# Altium footprint library Servo_Control_Lib.PcbLib: 27 footprints (part 2 of 2)
Each footprint in its own frame and in the unit in brackets; x right, y up, seen from the top. Pads: shape width x height; smd on the part's side, far side on the other; paste and mask are expansions set on the pad; w line width, h text height; cw(c..) or ccw(c..) is an arc to the next point about the centre after c.
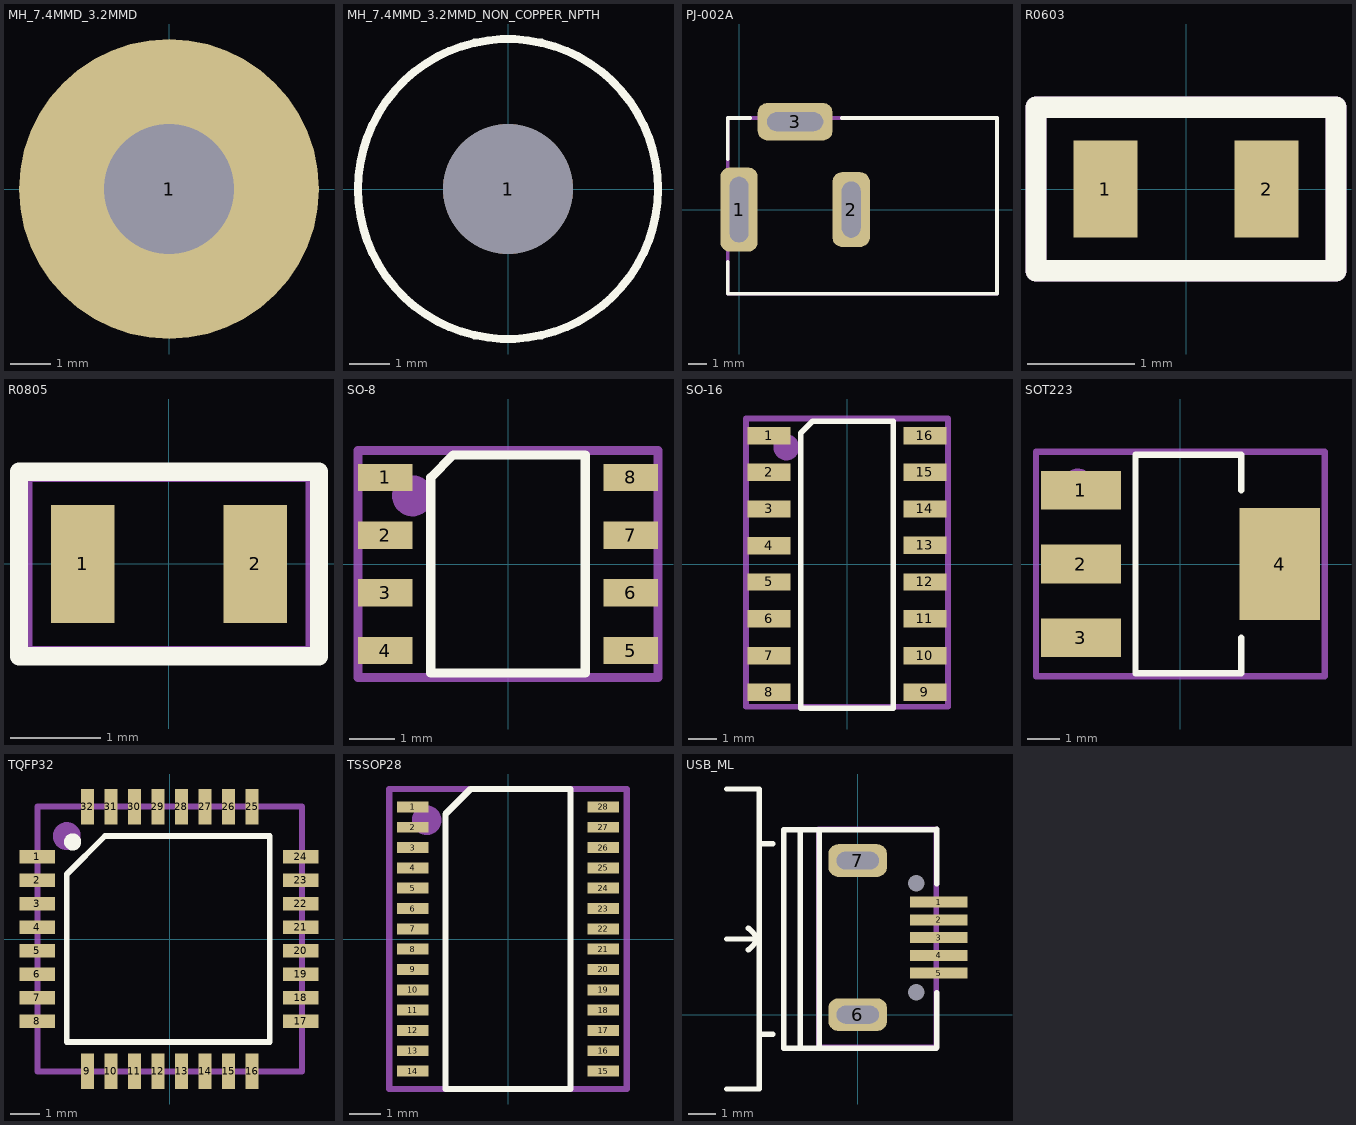
[diagram p1: the footprints below, top view; thin cyan lines are the x and y axes]

## MH_7.4MMD_3.2MMD [mm]
pads (1):
  round 7.4 hole 3.2: 1(0,0)

## MH_7.4MMD_3.2MMD_NON_COPPER_NPTH [mm]
pads (1):
  round 3.2 hole 3.2 unplated: 1(0,0)
Top Overlay:
  circle w0.2: c0,0 r3.7

## PJ-002A [mm]
pads (3):
  rrect50% 2x4.5 hole 1 slot 3.5 at 90 deg: 1(0,0)
  rrect50% 2x4 hole 1 slot 3 at 90 deg: 2(6,0)
  rrect50% 4x2 hole 1 slot 3 at 0 deg: 3(3,4.7)
Top Overlay:
  lines w0.2: -0.6,-2.8 -0.6,-4.5 13.8,-4.5 13.8,4.9 5.5,4.9 ; -0.6,2.7 -0.6,4.9 0.6,4.9
Mechanical 29:
  lines w0.2: -0.6,-4.5 -0.6,4.9 13.8,4.9 13.8,-4.5 -0.6,-4.5
  text ".Designator" at 4.7,-0.6 h1.52
3D body "pj-002a.stp": height 11.01, standoff -3.49, extent -0.6,-4.5 13.8,4.9

## R0603 [mm]
pads (2):
  rect 0.6x0.9 smd: 1(-0.75,0) 2(0.75,0)
Top Overlay:
  lines w0.2: -1.397,-0.762 1.397,-0.762 1.397,0.762 -1.397,0.762 -1.397,-0.762
Mechanical 29:
  lines w0.2: -1.397,-0.762 -1.397,0.762 1.397,0.762 1.397,-0.762 -1.397,-0.762
  text ".Designator" at -0.762,-0.254 h0.6
3D body "R0603.step": height 0.85, standoff 0.01, extent -0.8,-0.4 0.8,0.4

## R0805 [mm]
pads (2):
  rect 0.7x1.3 smd: 1(-0.95,0) 2(0.95,0)
Top Overlay:
  lines w0.2: -1.651,-1.016 -1.651,1.016 1.651,1.016 1.651,-1.016 -1.651,-1.016
Mechanical 29:
  lines w0.2: -1.6,-1 1.6,-1 1.6,1 -1.6,1 -1.6,-1
  text ".Designator" at -1.2,-0.2 h0.8
3D body "RESC2012X70N EIA 0805.step": height 0.71, standoff 0.01, extent -1,-0.6 1,0.6

## SO-8 [mm]
pads (8):
  rect 1.2x0.6 smd mask+0: 1(-2.7,1.905) 2(-2.7,0.635) 3(-2.7,-0.635) 4(-2.7,-1.905) 5(2.7,-1.905) 6(2.7,-0.635) 7(2.7,0.635) 8(2.7,1.905)
Top Overlay:
  lines w0.2: -1.7,-2.4 1.7,-2.4 1.7,2.4 -1.2,2.4 -1.7,1.9 -1.7,-2.4
Mechanical 29:
  circle w0.5: c-2.1,1.5 r0.2
  lines w0.2: -3.3,-2.5 3.3,-2.5 3.3,2.5 -3.3,2.5 -3.3,-2.5
  text ".Designator" at 0.3,-0.9 h1.52
3D body "SO-8.step": height 1.36, standoff -0.09, extent -2.878,-2.451 2.9,2.451

## SO-16 [mm]
pads (16):
  rect 1.5x0.6 smd mask+0: 1(-2.7,4.447) 2(-2.7,3.177) 3(-2.7,1.907) 4(-2.7,0.637) 5(-2.7,-0.623) 6(-2.7,-1.893) 7(-2.7,-3.177) 8(-2.7,-4.447) 9(2.7,-4.447) 10(2.7,-3.177) 11(2.7,-1.893) 12(2.7,-0.623) 13(2.7,0.647) 14(2.7,1.907) 15(2.7,3.177) 16(2.7,4.447)
Top Overlay:
  lines w0.2: -1.6,-5 1.6,-5 1.6,4.942 -1.2,4.942 -1.6,4.543 -1.6,-5
Mechanical 29:
  circle w0.5: c-2.1,4.042 r0.2
  lines w0.2: -3.5,-4.95 3.5,-4.95 3.5,5.042 -3.5,5.042 -3.5,-4.95
  text ".Designator" at 0.4,-3.3 h1.52
3D body "SO-16.step": height 1.36, standoff -0.09, extent -2.953,-5 2.953,4.982

## SOT223 [mm]
pads (4):
  rect 2.5x1.2 smd: 1(-3.1,2.3) 2(-3.1,0) 3(-3.1,-2.3)
  rect 2.5x3.5 smd: 4(3.1,0)
Top Overlay:
  lines w0.2: 1.9,-2.3 1.9,-3.4 -1.4,-3.4 -1.4,3.4 1.9,3.4 1.9,2.3
Mechanical 29:
  circle w0.5: c-3.2,2.5 r0.224
  lines w0.2: -4.5,-3.5 -4.5,3.5 4.5,3.5 4.5,-3.5 -4.5,-3.5
  text ".Designator" at -3.3,-0.8 h1.52
3D body "SOT-223.step": height 1.61, standoff -0.07, extent -3.38,-3.25 3.58,3.25

## TQFP32 [mm]
pads (32):
  rect 1.2x0.45 smd mask+0: 1(-4.5,2.8) 2(-4.5,2) 3(-4.5,1.2) 4(-4.5,0.4) 5(-4.5,-0.4) 6(-4.5,-1.2) 7(-4.5,-2) 8(-4.5,-2.8) 17(4.45,-2.8) 18(4.45,-2) 19(4.45,-1.2) 20(4.45,-0.4) 21(4.45,0.4) 22(4.45,1.2) 23(4.45,2) 24(4.45,2.8)
  rect 0.45x1.2 smd mask+0: 9(-2.8,-4.5) 10(-2,-4.5) 11(-1.2,-4.5) 12(-0.4,-4.5) 13(0.4,-4.5) 14(1.2,-4.5) 15(2,-4.5) 16(2.8,-4.5) 25(2.8,4.5) 26(2,4.5) 27(1.2,4.5) 28(0.4,4.5) 29(-0.4,4.5) 30(-1.2,4.5) 31(-2,4.5) 32(-2.8,4.5)
Top Overlay:
  circle w0.3: c-3.3,3.3 r0.141
  lines w0.2: -3.5,-3.5 3.4,-3.5 3.4,3.5 -2.2,3.5 -3.5,2.2 -3.5,-3.5
Mechanical 29:
  circle w0.5: c-3.5,3.5 r0.224
  lines w0.2: -4.5,-4.5 -4.5,4.5 4.5,4.5 4.5,-4.5 -4.5,-4.5
  text ".Designator" at -3.2,-0.5 h1.52
3D body "TQFP32-2.step": height 0.96, standoff -0.04, extent -4.5,-4.5 4.5,4.5

## TSSOP28 [mm]
pads (28):
  rect 1x0.35 smd mask+0: 1(-3.05,4.225) 2(-3.05,3.575) 3(-3.05,2.925) 4(-3.05,2.275) 5(-3.05,1.625) 6(-3.05,0.975) 7(-3.05,0.325) 8(-3.05,-0.325) 9(-3.05,-0.975) 10(-3.05,-1.625) 11(-3.05,-2.275) 12(-3.05,-2.925) 13(-3.05,-3.575) 14(-3.05,-4.225) 15(3.05,-4.225) 16(3.05,-3.575) 17(3.05,-2.925) 18(3.05,-2.275) 19(3.05,-1.625) 20(3.05,-0.975) 21(3.05,-0.325) 22(3.05,0.325) 23(3.05,0.975) 24(3.05,1.625) 25(3.05,2.275) 26(3.05,2.925) 27(3.05,3.575) 28(3.05,4.225)
Top Overlay:
  lines w0.2: -2,-4.8 2,-4.8 2,4.8 -1.2,4.8 -2,4 -2,-4.8
Mechanical 29:
  circle w0.5: c-2.6,3.8 r0.224
  lines w0.2: -3.8,-4.8 3.8,-4.8 3.8,4.8 -3.8,4.8 -3.8,-4.8
  text ".Designator" at 0.6,-3.7 h1.52
3D body "TSSOP-28_P065.STEP": height 0.97, standoff -0.02, extent -3.2,-4.85 3.2,4.85

## USB_ML [mm]
pads (9):
  round 0 hole 0.6: 0(2.15,0.825) 0(2.15,4.825)
  rect 2.1x0.4 smd mask+0: 1(2.975,4.125) 2(2.975,3.475) 3(2.975,2.825) 4(2.975,2.175) 5(2.975,1.525)
  rrect60% 2.15x1.2 hole 0.65 slot 1.55 at 0 deg mask+0: 6(0,0) 7(0,5.65)
Top Overlay:
  lines w0.2: -4.812,-2.725 -3.612,-2.725 -3.612,8.275 -4.812,8.275 ; -4.812,2.775 -3.612,2.775 ; -4.012,2.375 -3.612,2.775 ; -4.012,3.175 -3.612,2.775 ; -3.612,-0.725 -3.113,-0.725 ; -3.612,6.275 -3.113,6.275 ; -2.113,-1.225 -2.113,6.775 ; -1.412,-1.225 -1.412,6.775 ; 2.9,0.8 2.9,-1.2 2.875,-1.225 0.875,-1.225 -1.112,-1.225 -2.712,-1.225 -2.712,6.775 -1.112,6.775 2.875,6.775 2.9,6.8 2.9,4.8
Mechanical 29:
  lines w0.2: -1.425,-1.2 2.875,-1.2 2.875,6.8 -1.425,6.8 -1.425,-1.2
  text ".Designator" at 1.275,-0.1 h1.52
3D body "10118193-0001lfc.stp": height 2.87, standoff -0.73, extent -2.686,-1.103 2.975,6.753